# EAGLE library part MC3334* (library power-mgmt)
Motorola MC3334x NiMH/NiCd fast charge controller
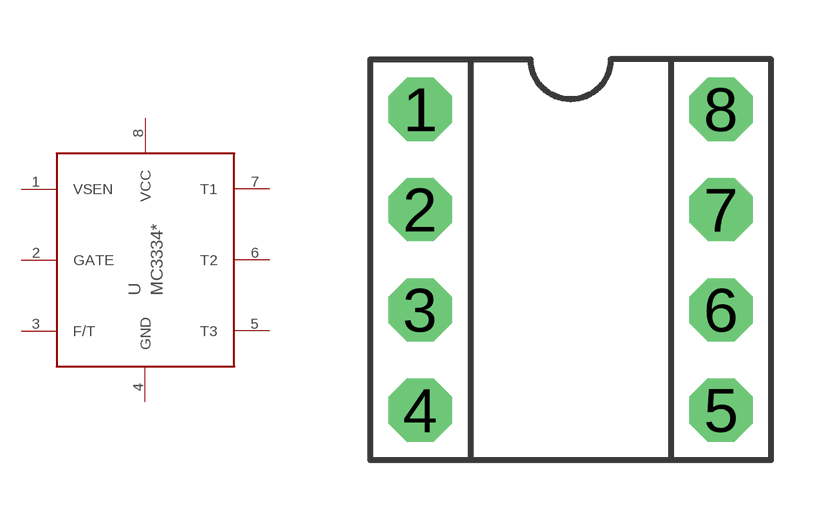
[diagram p0: symbol with the pads of DIP-8; footprint DIP-8]

Designator prefix U

## MC33340P, MC33342P  [DIP-8]
1  VSEN  in
2  GATE  in
3  F/T  in
4  GND  pwr
5  T3  pas
6  T2  pas
7  T1  pas
8  VCC  pwr

## Footprint DIP-8 (pad centres in mm)
DIP-8
drill 0.813 pad 1.6 octagon: 1 -3.81,3.81; 2 -3.81,1.27; 3 -3.81,-1.27; 4 -3.81,-3.81; 5 3.81,-3.81; 6 3.81,-1.27; 7 3.81,1.27; 8 3.81,3.81